# Altium footprint library JJM1-12V.PcbLib: 1 footprints
Each footprint in its own frame and in the unit in brackets; x right, y up, seen from the top. Pads: shape width x height; smd on the part's side, far side on the other; paste and mask are expansions set on the pad; w line width, h text height; cw(c..) or ccw(c..) is an arc to the next point about the centre after c.
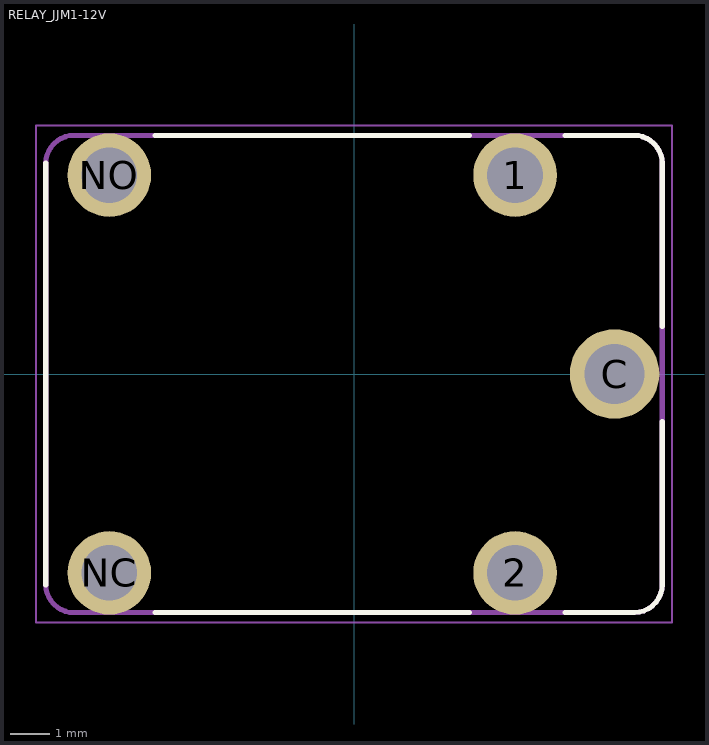
[diagram p0: the footprint, top view; thin cyan lines are the x and y axes]

## RELAY_JJM1-12V [mm]
pads (5):
  round 2.1 hole 1.4: 1(4.05,5) 2(4.05,-5) NC(-6.15,-5) NO(-6.15,5)
  round 2.25 hole 1.5: C(6.55,0)
Top Overlay:
  lines w0.127: -7.75,-5.3 -7.75,5.3 ; -5,-6 2.9,-6 ; -5,6 2.9,6 ; 5.3,-6 7.05,-6 ; 5.3,6 7.05,6 ; 7.04,6 cw(c7.04,5.29) 7.75,5.29 ; 7.052,-6 ccw(c7.039,-5.29) 7.75,-5.29 ; 7.75,-5.25 7.75,-1.2 ; 7.75,1.2 7.75,5.25
Mechanical 13:
  lines w0.127: 7.04,-6 -7.04,-6 cw(c-7.04,-5.29) -7.75,-5.29 -7.75,5.29 cw(c-7.04,5.29) -7.04,6 7.04,6 cw(c7.04,5.29) 7.75,5.29 7.75,-5.29 ; 7.052,-6 ccw(c7.039,-5.29) 7.75,-5.29
Mechanical 15:
  lines w0.05: -8,-6.25 -8,6.25 8,6.25 8,-6.25 -8,-6.25
3D body "step_temp.STEP": height 13.9, standoff -3.5, extent -7.75,-6 7.75,6